# Altium footprint library USB494000A.PcbLib: 1 footprints
Each footprint in its own frame and in the unit in brackets; x right, y up, seen from the top. Pads: shape width x height; smd on the part's side, far side on the other; paste and mask are expansions set on the pad; w line width, h text height; cw(c..) or ccw(c..) is an arc to the next point about the centre after c.
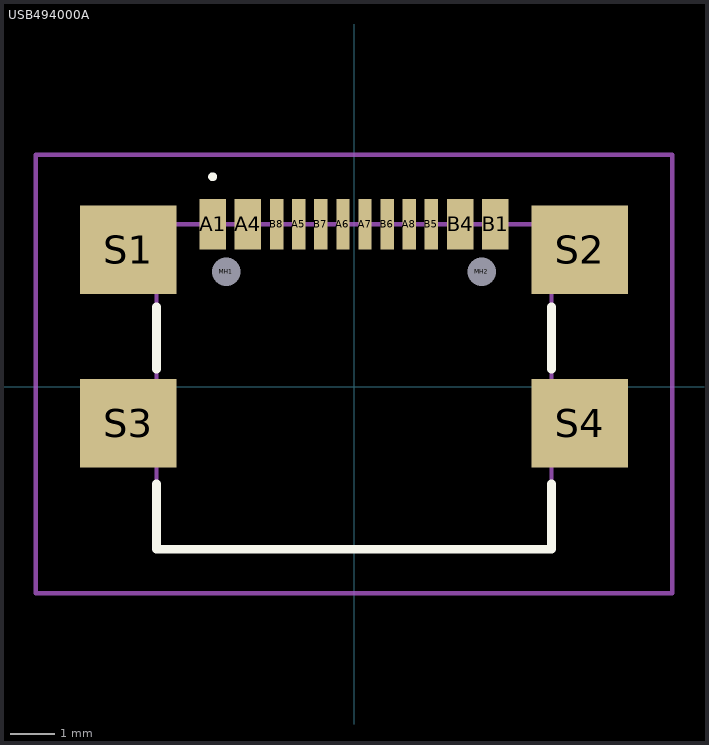
[diagram p0: the footprint, top view; thin cyan lines are the x and y axes]

## USB494000A [mm]
pads (18):
  rect 0.6x1.15 smd: A1(-3.2,3.678) A4(-2.4,3.678) B1(3.2,3.678) B4(2.4,3.678)
  rect 0.3x1.15 smd: A5(-1.25,3.678) A6(-0.25,3.678) A7(0.25,3.678) A8(1.25,3.678) B5(1.75,3.678) B6(0.75,3.678) B7(-0.75,3.678) B8(-1.75,3.678)
  round 0.325 hole 0.65 unplated: MH1(-2.89,2.603) MH2(2.89,2.603)
  rect 2.18x2 smd: S1(-5.11,3.103) S2(5.11,3.103) S3(-5.11,-0.827) S4(5.11,-0.827)
Top Overlay:
  lines w0.1: -3.2,4.7 cw(c-3.2,4.75) -3.2,4.8 ; -3.2,4.7 -3.2,4.7 ; -3.2,4.7 ccw(c-3.2,4.75) -3.2,4.8 ; -3.2,4.8 -3.2,4.8
  lines w0.2: -4.47,-2.2 -4.47,-3.678 4.47,-3.678 4.47,-2.2 ; -4.47,0.4 -4.47,1.8 ; 4.47,0.4 4.47,1.8
Mechanical 15:
  lines w0.1: -4.47,-3.678 4.47,-3.678 4.47,3.673 -4.47,3.673 -4.47,-3.678
Mechanical 20:
  lines w0.1: -7.2,-4.678 7.2,-4.678 7.2,5.253 -7.2,5.253 -7.2,-4.678